# EAGLE library part HBRIDGE (library Nick'sEagle)
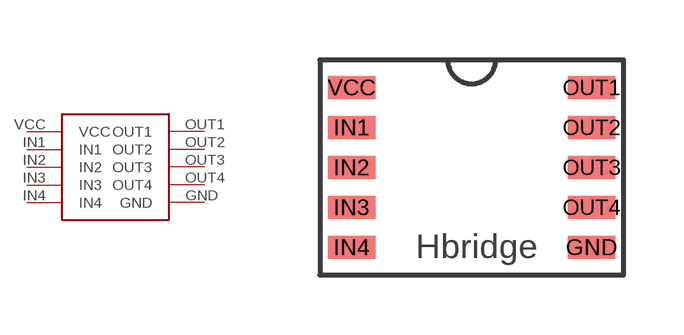
[diagram p1: symbol with the pads of HBRIDGE; footprint HBRIDGE]

Designator prefix -

## HBRIDGE  [HBRIDGE]
GND  GND
IN1  IN1
IN2  IN2
IN3  IN3
IN4  IN4
OUT1  OUT1
OUT2  OUT2
OUT3  OUT3
OUT4  OUT4
VCC  VCC

## Footprint HBRIDGE (pad centres in mm)
Part #: LV8548MC
smd 1.18 x 0.58: GND 3,-2; IN1 -3,1; IN2 -3,0; IN3 -3,-1; IN4 -3,-2; OUT1 3,2; OUT2 3,1; OUT3 3,0; OUT4 3,-1; VCC -3,2